# Altium schematic symbol library Buttons.SchLib: 8 symbols
Pins are listed as number, name and electrical type; pins without a type are passive.

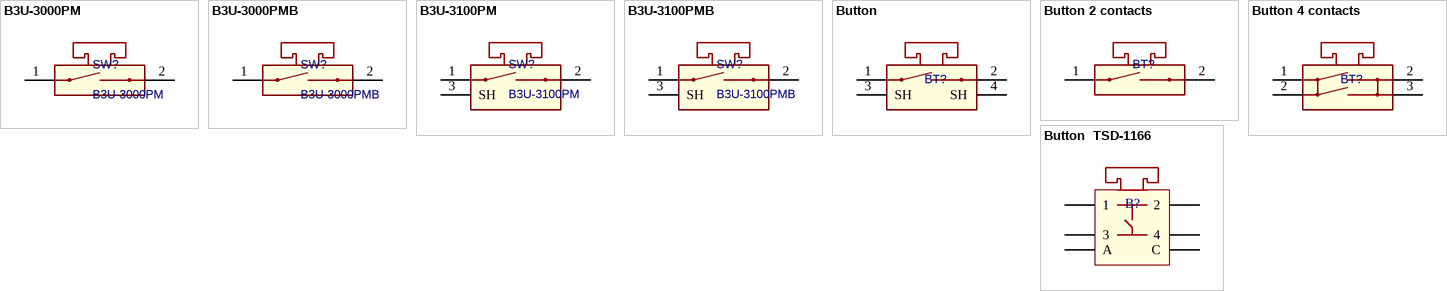
[diagram p0: symbols B3U-3000PM to Button  TSD-1166]

## B3U-3000PM
designator SW?
Manufacturer: OMRON; Part number: B3U-3000PM
footprint BUTTON (B3U-3000PM, OMRON) (2-Leads, Body 2,50x4,00mm, IPC Medium Density)
pins: 1, 2

## B3U-3000PMB
designator SW?
Manufacturer: OMRON; Part number: B3U-3000PMB
footprint BUTTON (B3U-3000PMB, OMRON) (2-Leads, Body 2,50x4,00mm, IPC Medium Density)
pins: 1, 2

## B3U-3100PM
designator SW?
Manufacturer: OMRON; Part number: B3U-3100PM
footprint BUTTON (B3U-3100PM, OMRON) (2-Leads, Body 2,50x4,00mm, IPC Medium Density)
pins: 1, 2, 3 SH

## B3U-3100PMB
designator SW?
Manufacturer: OMRON; Part number: B3U-3100PMB
footprint BUTTON (B3U-3100PMB, OMRON) (2-Leads, Body 2,50x4,00mm, IPC Medium Density)
pins: 1, 2, 3 SH

## Button
designator BT?  (value not drawn)
Tactile switch, 90 degree.; Manufacturer: TE Connectivity; Part number: 1-1825027-7 (FSMRA6JH); Part number two: KLS7-TS6606-7.0-180 (TC-0206); Manufacturer two: KLS
footprint Button 90 degree
pins: 1, 2, 3 SH, 4 SH

## Button 2 contacts
designator BT?, comment Button  (value not drawn)
Tactile switch, SMD.; Manufacturer: TE Connectivity; Part number: 1-1825027-7 (FSMRA6JH); Part number two: KLS7-TS6606-7.0-180 (TC-0206); Manufacturer two: KLS; Part number 3: TEConnectivity C-1437566-3
footprint SWITCH SMD (TEConnectivity C-1437566-3) (2-Leads, Body 6,00x3,50mm, IPC Medium Density)
footprint SWITCH SMD TYPE 2(TEConnectivity C-1437566-3) (2-Leads, Body 6,00x3,50mm, IPC Medium Density)
pins: 1, 2

## Button 4 contacts
designator BT?, comment Button  (value not drawn)
Tactile switch.; Manufacturer: TE Connectivity; Manufacturer two: KLS
pins: 1, 2, 2, 3

## Button  TSD-1166
designator B?, comment TSD-1166  (value not drawn)
footprint PB-6.5X4.5mm TSD-1166 (Surface Mounting Type Tact Switch, 4-Leads, Body 6x6mm, Height 4.5mm Black)
pins: 1, 2, 3, 4, A, C